# EAGLE library part LOGO_DM16_24 (library LOGO)
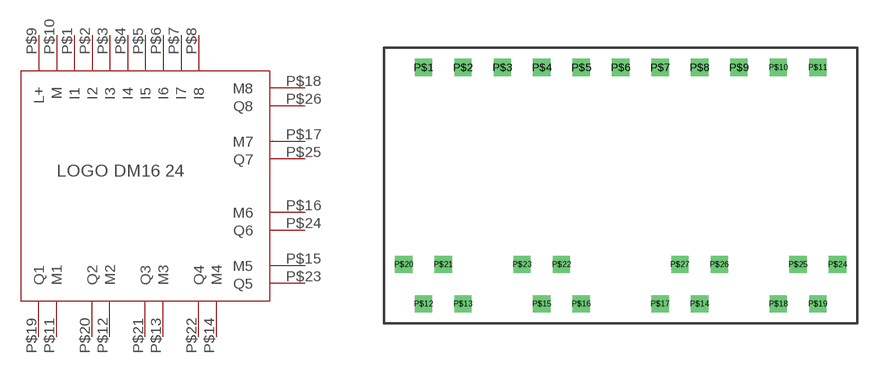
[diagram p1: symbol with the pads of LOGO_DM16_24; footprint LOGO_DM16_24]

Designator prefix -

## LOGO_DM16_24  [LOGO_DM16_24]
P$1  I1
P$2  I2
P$3  I3
P$4  I4
P$5  I5
P$6  I6
P$7  I7
P$8  I8
P$9  L+
P$10  M
P$11  M1
P$12  M2
P$13  M3
P$14  M4
P$15  M5
P$16  M6
P$17  M7
P$18  M8
P$19  Q1
P$20  Q2
P$21  Q3
P$22  Q4
P$23  Q5
P$24  Q6
P$25  Q7
P$26  Q8

## Footprint LOGO_DM16_24 (pad centres in mm)
drill 0.6 square: P$1 -12.7,7.62; P$2 -10.16,7.62; P$3 -7.62,7.62; P$4 -5.08,7.62; P$5 -2.54,7.62; P$6 0,7.62; P$7 2.54,7.62; P$8 5.08,7.62; P$9 7.62,7.62; P$10 10.16,7.62; P$11 12.7,7.62; P$12 -12.7,-7.62; P$13 -10.16,-7.62; P$14 5.08,-7.62; P$15 -5.08,-7.62; P$16 -2.54,-7.62; P$17 2.54,-7.62; P$18 10.16,-7.62; P$19 12.7,-7.62; P$20 -13.97,-5.08; P$21 -11.43,-5.08; P$22 -3.81,-5.08; P$23 -6.35,-5.08; P$24 13.97,-5.08; P$25 11.43,-5.08; P$26 6.35,-5.08; P$27 3.81,-5.08